# EAGLE library part CAM-M8Q (library we-sensor)
u-blox CAM-M8Q Multi-GNSS-Module (GPS, QZSS, GLONASS, Galileo, BeiDou)
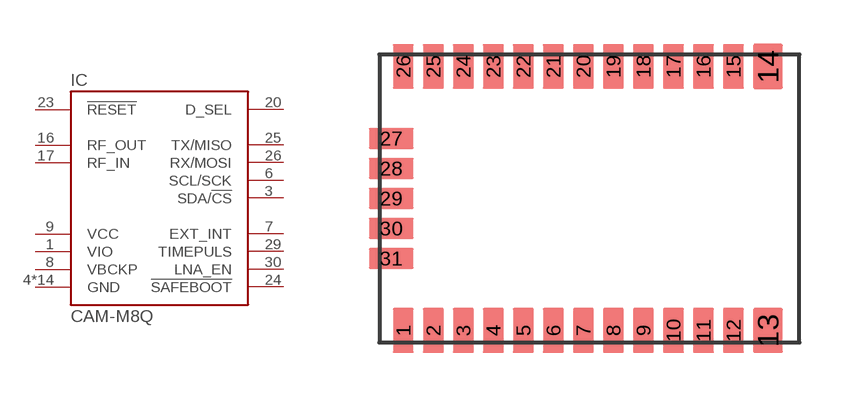
[diagram p7: symbol with the pads of CAM-M8Q; footprint CAM-M8Q]

Designator prefix IC

## CAM-M8Q  [CAM-M8Q]
1  VIO  pwr
3  SDA/!CS
4  GND  pwr
5  GND  pwr
6  SCL/SCK
7  EXT_INT
8  VBCKP  pwr
9  VCC  pwr
10  GND  pwr
11  GND  pwr
12  GND  pwr
13  GND  pwr
14  GND  pwr
15  GND  pwr
16  RF_OUT  out
17  RF_IN  in
18  GND  pwr
19  GND  pwr
20  D_SEL
21  GND  pwr
22  GND  pwr
23  !RESET  in
24  !SAFEBOOT
25  TX/MISO  out
26  RX/MOSI  in
27  GND  pwr
29  TIMEPULS  out
30  LNA_EN
31  GND  pwr

## Footprint CAM-M8Q (pad centres in mm)
smd 0.7 x 1.5: 1 -6.2,-4.4; 2 -5.2,-4.4; 3 -4.2,-4.4; 4 -3.2,-4.4; 5 -2.2,-4.4; 6 -1.2,-4.4; 7 -0.2,-4.4; 8 0.8,-4.4; 9 1.8,-4.4; 10 2.8,-4.4; 11 3.8,-4.4; 12 4.8,-4.4; 15 4.8,4.4; 16 3.8,4.4; 17 2.8,4.4; 18 1.8,4.4; 19 0.8,4.4; 20 -0.2,4.4; 21 -1.2,4.4; 22 -2.2,4.4; 23 -3.2,4.4; 24 -4.2,4.4; 25 -5.2,4.4; 26 -6.2,4.4
smd 1 x 1.5: 13 5.95,-4.4; 14 5.95,4.4
smd 1.5 x 0.7: 27 -6.6,2; 28 -6.6,1; 29 -6.6,0; 30 -6.6,-1; 31 -6.6,-2